# Altium schematic symbol library kmilo17pet-LT_OpAmp_LT1000.SchLib: 2280 symbols (part 1 of 79)
Pins are listed as number, name and electrical type; pins without a type are passive.

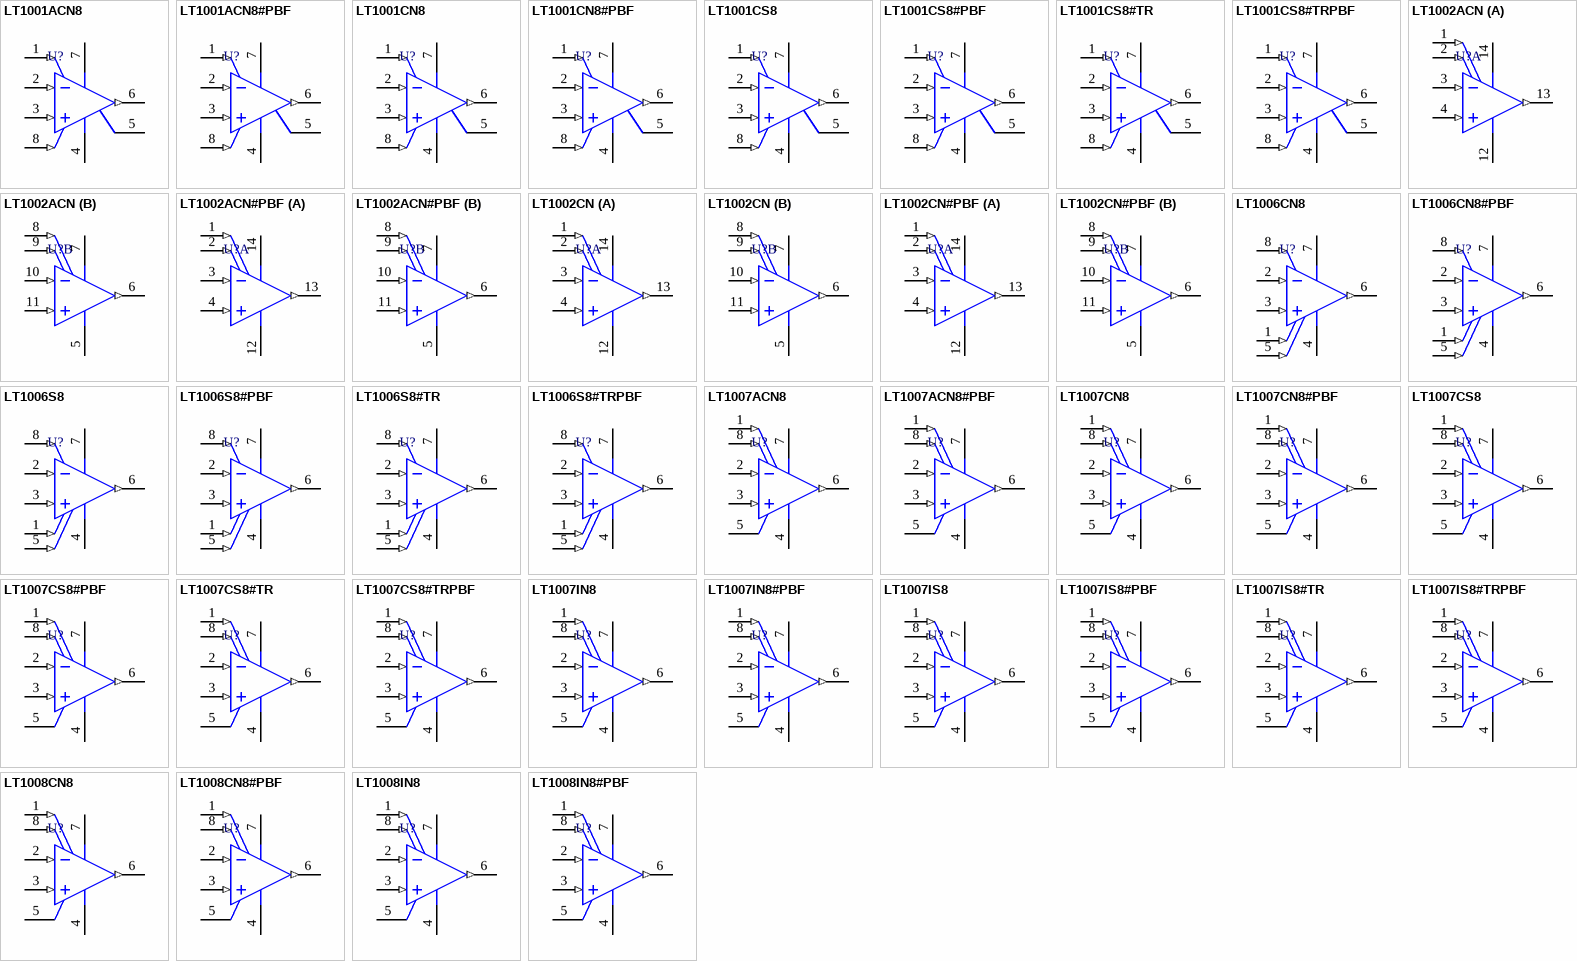
[diagram p0: symbols LT1001ACN8 to LT1008IN8#PBF]

## LT1001ACN8
designator U?
Single Channel, General Purpose, High Precision Operational Amplifier, 0.8 MHz Typical GBW, 0.25 V/us Typical SR, 6 to 44 V, 8-Pin DIP (N8-8), Commerical; Linear Technology Part Number: LT1001; Manufacturer: Linear Technology; PartNumber: LT1001ACN8; Channels (#): 1; GBW (MHz) Typical: 0.8; Is (mA) Typical: 1.5; SR (V/us) Typical: 0.25; Vos (mV) Typical: 0.01; Vs Max (V): 44; Vs Min (V): 6; DatasheetVersion: Rev. B; PackageVersion: Rev I; PackageReference: LT-N8-8; PackageDescription: 8-Lead PDIP, Body 10.16 x 6.48 mm, Pitch 2.54 mm; Supplier 1: Digi-Key; Supplier Part Number 1: LT1001ACN8-ND; Supplier 2: Newark; Supplier Part Number 2: 57M0677; Type: VFB; Mounting Technology: Through Hole; ComponentLink1Description: Manufacturer URL; ComponentLink1URL: http://www.linear.com/; ComponentLink2Description: Datasheet; ComponentLink2URL: http://cds.linear.com/docs/en/datasheet/1001fb.pdf; ComponentLink3Description: Package Specification; ComponentLink3URL: http://cds.linear.com/docs/en/packaging/05081510_I_N8.pdf
footprint LT-N8-8 (DIP, 8-Leads, Body 10.16x6.48mm, Pitch 2.54mm)
pins: 1 VOS TRIM (in), 2 -IN (in), 3 +IN (in), 4 V- (power), 5 NC, 6 OUT (out), 7 V+ (power), 8 VOS TRIM (in)

## LT1001ACN8#PBF
designator U?
Single Channel, General Purpose, High Precision Operational Amplifier, 0.8 MHz Typical GBW, 0.25 V/us Typical SR, 6 to 44 V, 8-Pin DIP (N8-8), Commerical, Pb-Free; Linear Technology Part Number: LT1001; Manufacturer: Linear Technology; PartNumber: LT1001ACN8#PBF; Channels (#): 1; GBW (MHz) Typical: 0.8; Is (mA) Typical: 1.5; SR (V/us) Typical: 0.25; Vos (mV) Typical: 0.01; Vs Max (V): 44; Vs Min (V): 6; DatasheetVersion: Rev. B; PackageVersion: Rev I; PackageReference: LT-N8-8; PackageDescription: 8-Lead PDIP, Body 10.16 x 6.48 mm, Pitch 2.54 mm; Supplier 1: Digi-Key; Supplier Part Number 1: LT1001ACN8#PBF-ND; Supplier 2: Farnell; Supplier Part Number 2: 2211375; Supplier 3: Newark; Supplier Part Number 3: 57M0678; RoHS: Pb-Free; Type: VFB; Mounting Technology: Through Hole; ComponentLink1Description: Manufacturer URL; ComponentLink1URL: http://www.linear.com/; ComponentLink2Description: Datasheet; ComponentLink2URL: http://cds.linear.com/docs/en/datasheet/1001fb.pdf; ComponentLink3Description: Package Specification; ComponentLink3URL: http://cds.linear.com/docs/en/packaging/05081510_I_N8.pdf
footprint LT-N8-8 (DIP, 8-Leads, Body 10.16x6.48mm, Pitch 2.54mm)
pins: 1 VOS TRIM (in), 2 -IN (in), 3 +IN (in), 4 V- (power), 5 NC, 6 OUT (out), 7 V+ (power), 8 VOS TRIM (in)

## LT1001CN8
designator U?
Single Channel, General Purpose, High Precision Operational Amplifier, 0.8 MHz Typical GBW, 0.25 V/us Typical SR, 6 to 44 V, 8-Pin DIP (N8-8), Commerical; Linear Technology Part Number: LT1001; Manufacturer: Linear Technology; PartNumber: LT1001CN8; Channels (#): 1; GBW (MHz) Typical: 0.8; Is (mA) Typical: 1.5; SR (V/us) Typical: 0.25; Vos (mV) Typical: 0.01; Vs Max (V): 44; Vs Min (V): 6; DatasheetVersion: Rev. B; PackageVersion: Rev I; PackageReference: LT-N8-8; PackageDescription: 8-Lead PDIP, Body 10.16 x 6.48 mm, Pitch 2.54 mm; Supplier 1: Digi-Key; Supplier Part Number 1: LT1001CN8-ND; Supplier 2: Newark; Supplier Part Number 2: 57M0679; Type: VFB; Mounting Technology: Surface Mount; ComponentLink1Description: Manufacturer URL; ComponentLink1URL: http://www.linear.com/; ComponentLink2Description: Datasheet; ComponentLink2URL: http://cds.linear.com/docs/en/datasheet/1001fb.pdf; ComponentLink3Description: Package Specification; ComponentLink3URL: http://cds.linear.com/docs/en/packaging/05081510_I_N8.pdf
footprint LT-N8-8 (DIP, 8-Leads, Body 10.16x6.48mm, Pitch 2.54mm)
pins: 1 VOS TRIM (in), 2 -IN (in), 3 +IN (in), 4 V- (power), 5 NC, 6 OUT (out), 7 V+ (power), 8 VOS TRIM (in)

## LT1001CN8#PBF
designator U?
Single Channel, General Purpose, High Precision Operational Amplifier, 0.8 MHz Typical GBW, 0.25 V/us Typical SR, 6 to 44 V, 8-Pin DIP (N8-8), Commerical, Pb-Free; Linear Technology Part Number: LT1001; Manufacturer: Linear Technology; PartNumber: LT1001CN8#PBF; Channels (#): 1; GBW (MHz) Typical: 0.8; Is (mA) Typical: 1.5; SR (V/us) Typical: 0.25; Vos (mV) Typical: 0.01; Vs Max (V): 44; Vs Min (V): 6; DatasheetVersion: Rev. B; PackageVersion: Rev I; PackageReference: LT-N8-8; PackageDescription: 8-Lead PDIP, Body 10.16 x 6.48 mm, Pitch 2.54 mm; Supplier 1: Digi-Key; Supplier Part Number 1: LT1001CN8#PBF-ND; Supplier 2: Farnell; Supplier Part Number 2: 2211376; Supplier 3: Newark; Supplier Part Number 3: 57M0680; RoHS: Pb-Free; Type: VFB; Mounting Technology: Surface Mount; ComponentLink1Description: Manufacturer URL; ComponentLink1URL: http://www.linear.com/; ComponentLink2Description: Datasheet; ComponentLink2URL: http://cds.linear.com/docs/en/datasheet/1001fb.pdf; ComponentLink3Description: Package Specification; ComponentLink3URL: http://cds.linear.com/docs/en/packaging/05081510_I_N8.pdf
footprint LT-N8-8 (DIP, 8-Leads, Body 10.16x6.48mm, Pitch 2.54mm)
pins: 1 VOS TRIM (in), 2 -IN (in), 3 +IN (in), 4 V- (power), 5 NC, 6 OUT (out), 7 V+ (power), 8 VOS TRIM (in)

## LT1001CS8
designator U?
Single Channel, General Purpose, High Precision Operational Amplifier, 0.8 MHz Typical GBW, 0.25 V/us Typical SR, 6 to 44 V, 8-Pin SOIC (S8-8), Commerical; Linear Technology Part Number: LT1001; Manufacturer: Linear Technology; PartNumber: LT1001CS8; Channels (#): 1; GBW (MHz) Typical: 0.8; Is (mA) Typical: 1.5; SR (V/us) Typical: 0.25; Vos (mV) Typical: 0.01; Vs Max (V): 44; Vs Min (V): 6; DatasheetVersion: Rev. B; PackageVersion: Rev G; PackageReference: LT-S8-8; PackageDescription: 8-Pin Plastic Small Outline, Body 4.9 x 3.9 mm, Pitch 1.27 mm; Supplier 1: Digi-Key; Supplier Part Number 1: LT1001CS8-ND; Type: VFB; Mounting Technology: Surface Mount; ComponentLink1Description: Manufacturer URL; ComponentLink1URL: http://www.linear.com/; ComponentLink2Description: Datasheet; ComponentLink2URL: http://cds.linear.com/docs/en/datasheet/1001fb.pdf; ComponentLink3Description: Package Specification; ComponentLink3URL: http://cds.linear.com/docs/en/packaging/05081610_G_SO8.pdf
footprint LT-S8-8_N (SOIC, 8-Leads, Body 4.9x3.9mm, Pitch 1.27mm, IPC Medium Density)
footprint LT-S8-8_L (SOIC, 8-Leads, Body 4.9x3.9mm, Pitch 1.27mm, IPC High Density)
footprint LT-S8-8_M (SOIC, 8-Leads, Body 4.9x3.9mm, Pitch 1.27mm, IPC Low Density)
pins: 1 VOS TRIM (in), 2 -IN (in), 3 +IN (in), 4 V- (power), 5 NC, 6 OUT (out), 7 V+ (power), 8 VOS TRIM (in)

## LT1001CS8#PBF
designator U?
Single Channel, General Purpose, High Precision Operational Amplifier, 0.8 MHz Typical GBW, 0.25 V/us Typical SR, 6 to 44 V, 8-Pin SOIC (S8-8), Commerical, Pb-Free; Linear Technology Part Number: LT1001; Manufacturer: Linear Technology; PartNumber: LT1001CS8#PBF; Channels (#): 1; GBW (MHz) Typical: 0.8; Is (mA) Typical: 1.5; SR (V/us) Typical: 0.25; Vos (mV) Typical: 0.01; Vs Max (V): 44; Vs Min (V): 6; DatasheetVersion: Rev. B; PackageVersion: Rev G; PackageReference: LT-S8-8; PackageDescription: 8-Pin Plastic Small Outline, Body 4.9 x 3.9 mm, Pitch 1.27 mm; Supplier 1: Digi-Key; Supplier Part Number 1: LT1001CS8#PBF-ND; Supplier 2: Farnell; Supplier Part Number 2: 1330559; Supplier 3: Newark; Supplier Part Number 3: 57M0682; RoHS: Pb-Free; Type: VFB; Mounting Technology: Surface Mount; ComponentLink1Description: Manufacturer URL; ComponentLink1URL: http://www.linear.com/; ComponentLink2Description: Datasheet; ComponentLink2URL: http://cds.linear.com/docs/en/datasheet/1001fb.pdf; ComponentLink3Description: Package Specification; ComponentLink3URL: http://cds.linear.com/docs/en/packaging/05081610_G_SO8.pdf
footprint LT-S8-8_N (SOIC, 8-Leads, Body 4.9x3.9mm, Pitch 1.27mm, IPC Medium Density)
footprint LT-S8-8_L (SOIC, 8-Leads, Body 4.9x3.9mm, Pitch 1.27mm, IPC High Density)
footprint LT-S8-8_M (SOIC, 8-Leads, Body 4.9x3.9mm, Pitch 1.27mm, IPC Low Density)
pins: 1 VOS TRIM (in), 2 -IN (in), 3 +IN (in), 4 V- (power), 5 NC, 6 OUT (out), 7 V+ (power), 8 VOS TRIM (in)

## LT1001CS8#TR
designator U?
Single Channel, General Purpose, High Precision Operational Amplifier, 0.8 MHz Typical GBW, 0.25 V/us Typical SR, 6 to 44 V, 8-Pin SOIC (S8-8), Commerical, Reel; Linear Technology Part Number: LT1001; Manufacturer: Linear Technology; PartNumber: LT1001CS8#TR; Channels (#): 1; GBW (MHz) Typical: 0.8; Is (mA) Typical: 1.5; SR (V/us) Typical: 0.25; Vos (mV) Typical: 0.01; Vs Max (V): 44; Vs Min (V): 6; DatasheetVersion: Rev. B; PackageVersion: Rev G; PackageReference: LT-S8-8; PackageDescription: 8-Pin Plastic Small Outline, Body 4.9 x 3.9 mm, Pitch 1.27 mm; Supplier 1: Digi-Key; Supplier Part Number 1: LT1001CS8#TR-ND; Packing: Reel; Type: VFB; Mounting Technology: Surface Mount; ComponentLink1Description: Manufacturer URL; ComponentLink1URL: http://www.linear.com/; ComponentLink2Description: Datasheet; ComponentLink2URL: http://cds.linear.com/docs/en/datasheet/1001fb.pdf; ComponentLink3Description: Package Specification; ComponentLink3URL: http://cds.linear.com/docs/en/packaging/05081610_G_SO8.pdf
footprint LT-S8-8_N (SOIC, 8-Leads, Body 4.9x3.9mm, Pitch 1.27mm, IPC Medium Density)
footprint LT-S8-8_L (SOIC, 8-Leads, Body 4.9x3.9mm, Pitch 1.27mm, IPC High Density)
footprint LT-S8-8_M (SOIC, 8-Leads, Body 4.9x3.9mm, Pitch 1.27mm, IPC Low Density)
pins: 1 VOS TRIM (in), 2 -IN (in), 3 +IN (in), 4 V- (power), 5 NC, 6 OUT (out), 7 V+ (power), 8 VOS TRIM (in)

## LT1001CS8#TRPBF
designator U?
Single Channel, General Purpose, High Precision Operational Amplifier, 0.8 MHz Typical GBW, 0.25 V/us Typical SR, 6 to 44 V, 8-Pin SOIC (S8-8), Commerical, Pb-Free, Reel; Linear Technology Part Number: LT1001; Manufacturer: Linear Technology; PartNumber: LT1001CS8#TRPBF; Channels (#): 1; GBW (MHz) Typical: 0.8; Is (mA) Typical: 1.5; SR (V/us) Typical: 0.25; Vos (mV) Typical: 0.01; Vs Max (V): 44; Vs Min (V): 6; DatasheetVersion: Rev. B; PackageVersion: Rev G; PackageReference: LT-S8-8; PackageDescription: 8-Pin Plastic Small Outline, Body 4.9 x 3.9 mm, Pitch 1.27 mm; Supplier 1: Digi-Key; Supplier Part Number 1: LT1001CS8#TRPBF-ND; Packing: Reel; RoHS: Pb-Free; Type: VFB; Mounting Technology: Surface Mount; ComponentLink1Description: Manufacturer URL; ComponentLink1URL: http://www.linear.com/; ComponentLink2Description: Datasheet; ComponentLink2URL: http://cds.linear.com/docs/en/datasheet/1001fb.pdf; ComponentLink3Description: Package Specification; ComponentLink3URL: http://cds.linear.com/docs/en/packaging/05081610_G_SO8.pdf
footprint LT-S8-8_N (SOIC, 8-Leads, Body 4.9x3.9mm, Pitch 1.27mm, IPC Medium Density)
footprint LT-S8-8_L (SOIC, 8-Leads, Body 4.9x3.9mm, Pitch 1.27mm, IPC High Density)
footprint LT-S8-8_M (SOIC, 8-Leads, Body 4.9x3.9mm, Pitch 1.27mm, IPC Low Density)
pins: 1 VOS TRIM (in), 2 -IN (in), 3 +IN (in), 4 V- (power), 5 NC, 6 OUT (out), 7 V+ (power), 8 VOS TRIM (in)

## LT1002ACN
designator U?
Dual Channel, Operational Amplifier, High CMRR and PSRR , 0.8 MHz Typical GBW, 0.25 V/us Typical SR, 6 to 44 V, 14-Pin DIP (N-14), Commerical; Linear Technology Part Number: LT1002; Manufacturer: Linear Technology; PartNumber: LT1002ACN; Channels (#): 2; GBW (MHz) Typical: 0.8; Is (mA) Typical: 1.53; SR (V/us) Typical: 0.25; Vos (mV) Typical: 0.02; Vs Max (V): 44; Vs Min (V): 6; DatasheetVersion: Rev. B; PackageVersion: Rev I; PackageReference: LT-N-14; PackageDescription: 14-Lead PDIP, Body 19.558 x 6.477 mm, Pitch 2.54 mm; Supplier 1: Digi-Key; Supplier Part Number 1: LT1002ACN-ND; Supplier 2: Newark; Supplier Part Number 2: 57M0685; Type: VFB; Mounting Technology: Through Hole; ComponentLink1Description: Manufacturer URL; ComponentLink1URL: http://www.linear.com/; ComponentLink2Description: Datasheet; ComponentLink2URL: http://cds.linear.com/docs/en/datasheet/1002fb.pdf; ComponentLink3Description: Package Specification; ComponentLink3URL: http://cds.linear.com/docs/en/packaging/05081510_I_N14.pdf
footprint LT-N-14 (DIP, 14-Leads, Body 19.558x6.477mm, Pitch 2.54mm)
part A pins: 1 NULL (A) (in), 2 NULL (A) (in), 3 -IN (A) (in), 4 +IN (A) (in), 12 V- (A) (power), 13 OUT (A) (out), 14 V+ (A) (power)
part B pins: 5 V- (B) (power), 6 OUT (B) (out), 7 V+ (B) (power), 8 NULL (B) (in), 9 NULL (B) (in), 10 -IN (B) (in), 11 +IN (B) (in)

## LT1002ACN#PBF
designator U?
Dual Channel, Operational Amplifier, High CMRR and PSRR , 0.8 MHz Typical GBW, 0.25 V/us Typical SR, 6 to 44 V, 14-Pin DIP (N-14), Commerical, Pb-Free; Linear Technology Part Number: LT1002; Manufacturer: Linear Technology; PartNumber: LT1002ACN#PBF; Channels (#): 2; GBW (MHz) Typical: 0.8; Is (mA) Typical: 1.53; SR (V/us) Typical: 0.25; Vos (mV) Typical: 0.02; Vs Max (V): 44; Vs Min (V): 6; DatasheetVersion: Rev. B; PackageVersion: Rev I; PackageReference: LT-N-14; PackageDescription: 14-Lead PDIP, Body 19.558 x 6.477 mm, Pitch 2.54 mm; Supplier 1: Digi-Key; Supplier Part Number 1: LT1002ACN#PBF-ND; Supplier 2: Newark; Supplier Part Number 2: 57M0686; RoHS: Pb-Free; Type: VFB; Mounting Technology: Through Hole; ComponentLink1Description: Manufacturer URL; ComponentLink1URL: http://www.linear.com/; ComponentLink2Description: Datasheet; ComponentLink2URL: http://cds.linear.com/docs/en/datasheet/1002fb.pdf; ComponentLink3Description: Package Specification; ComponentLink3URL: http://cds.linear.com/docs/en/packaging/05081510_I_N14.pdf
footprint LT-N-14 (DIP, 14-Leads, Body 19.558x6.477mm, Pitch 2.54mm)
part A pins: 1 NULL (A) (in), 2 NULL (A) (in), 3 -IN (A) (in), 4 +IN (A) (in), 12 V- (A) (power), 13 OUT (A) (out), 14 V+ (A) (power)
part B pins: 5 V- (B) (power), 6 OUT (B) (out), 7 V+ (B) (power), 8 NULL (B) (in), 9 NULL (B) (in), 10 -IN (B) (in), 11 +IN (B) (in)

## LT1002CN
designator U?
Dual Channel, Operational Amplifier, High CMRR and PSRR , 0.8 MHz Typical GBW, 0.25 V/us Typical SR, 6 to 44 V, 14-Pin DIP (N-14), Commerical; Linear Technology Part Number: LT1002; Manufacturer: Linear Technology; PartNumber: LT1002CN; Channels (#): 2; GBW (MHz) Typical: 0.8; Is (mA) Typical: 1.53; SR (V/us) Typical: 0.25; Vos (mV) Typical: 0.02; Vs Max (V): 44; Vs Min (V): 6; DatasheetVersion: Rev. B; PackageVersion: Rev I; PackageReference: LT-N-14; PackageDescription: 14-Lead PDIP, Body 19.558 x 6.477 mm, Pitch 2.54 mm; Supplier 1: Digi-Key; Supplier Part Number 1: LT1002CN-ND; Supplier 2: Newark; Supplier Part Number 2: 57M0687; Type: VFB; Mounting Technology: Through Hole; ComponentLink1Description: Manufacturer URL; ComponentLink1URL: http://www.linear.com/; ComponentLink2Description: Datasheet; ComponentLink2URL: http://cds.linear.com/docs/en/datasheet/1002fb.pdf; ComponentLink3Description: Package Specification; ComponentLink3URL: http://cds.linear.com/docs/en/packaging/05081510_I_N14.pdf
footprint LT-N-14 (DIP, 14-Leads, Body 19.558x6.477mm, Pitch 2.54mm)
part A pins: 1 NULL (A) (in), 2 NULL (A) (in), 3 -IN (A) (in), 4 +IN (A) (in), 12 V- (A) (power), 13 OUT (A) (out), 14 V+ (A) (power)
part B pins: 5 V- (B) (power), 6 OUT (B) (out), 7 V+ (B) (power), 8 NULL (B) (in), 9 NULL (B) (in), 10 -IN (B) (in), 11 +IN (B) (in)

## LT1002CN#PBF
designator U?
Dual Channel, Operational Amplifier, High CMRR and PSRR , 0.8 MHz Typical GBW, 0.25 V/us Typical SR, 6 to 44 V, 14-Pin DIP (N-14), Commerical, Pb-Free; Linear Technology Part Number: LT1002; Manufacturer: Linear Technology; PartNumber: LT1002CN#PBF; Channels (#): 2; GBW (MHz) Typical: 0.8; Is (mA) Typical: 1.53; SR (V/us) Typical: 0.25; Vos (mV) Typical: 0.02; Vs Max (V): 44; Vs Min (V): 6; DatasheetVersion: Rev. B; PackageVersion: Rev I; PackageReference: LT-N-14; PackageDescription: 14-Lead PDIP, Body 19.558 x 6.477 mm, Pitch 2.54 mm; Supplier 1: Digi-Key; Supplier Part Number 1: LT1002CN#PBF-ND; Supplier 2: Farnell; Supplier Part Number 2: 1330560; Supplier 3: Newark; Supplier Part Number 3: 57M0688; RoHS: Pb-Free; Type: VFB; Mounting Technology: Through Hole; ComponentLink1Description: Manufacturer URL; ComponentLink1URL: http://www.linear.com/; ComponentLink2Description: Datasheet; ComponentLink2URL: http://cds.linear.com/docs/en/datasheet/1002fb.pdf; ComponentLink3Description: Package Specification; ComponentLink3URL: http://cds.linear.com/docs/en/packaging/05081510_I_N14.pdf
footprint LT-N-14 (DIP, 14-Leads, Body 19.558x6.477mm, Pitch 2.54mm)
part A pins: 1 NULL (A) (in), 2 NULL (A) (in), 3 -IN (A) (in), 4 +IN (A) (in), 12 V- (A) (power), 13 OUT (A) (out), 14 V+ (A) (power)
part B pins: 5 V- (B) (power), 6 OUT (B) (out), 7 V+ (B) (power), 8 NULL (B) (in), 9 NULL (B) (in), 10 -IN (B) (in), 11 +IN (B) (in)

## LT1006CN8
designator U?
Single Channel, Precision Single Supply Operational Amplifier, 0.6 MHz Typical GBW, 0.4 V/us Typical SR, 4 to 44 V, 8-Pin DIP (N8-8), Commerical; Linear Technology Part Number: LT1006; Manufacturer: Linear Technology; PartNumber: LT1006CN8; Channels (#): 1; GBW (MHz) Typical: 0.6; Is (mA) Typical: 0.34; SR (V/us) Typical: 0.4; Vos (mV) Typical: 0.02; Vs Max (V): 44; Vs Min (V): 4; DatasheetVersion: Rev. A; PackageVersion: Rev I; PackageReference: LT-N8-8; PackageDescription: 8-Lead PDIP, Body 10.16 x 6.48 mm, Pitch 2.54 mm; Supplier 1: Digi-Key; Supplier Part Number 1: LT1006CN8-ND; Type: VFB; Mounting Technology: Through Hole; ComponentLink1Description: Manufacturer URL; ComponentLink1URL: http://www.linear.com/; ComponentLink2Description: Datasheet; ComponentLink2URL: http://cds.linear.com/docs/en/datasheet/1006fa.pdf; ComponentLink3Description: Package Specification; ComponentLink3URL: http://cds.linear.com/docs/en/packaging/05081510_I_N8.pdf
footprint LT-N8-8 (DIP, 8-Leads, Body 10.16x6.48mm, Pitch 2.54mm)
pins: 1 VOS TRIM (in), 2 -IN (in), 3 +IN (in), 4 V- (power), 5 VOS TRIM (in), 6 OUT (out), 7 V+ (power), 8 ISY SET (in)

## LT1006CN8#PBF
designator U?
Single Channel, Precision Single Supply Operational Amplifier, 0.6 MHz Typical GBW, 0.4 V/us Typical SR, 4 to 44 V, 8-Pin DIP (N8-8), Commerical, Pb-Free; Linear Technology Part Number: LT1006; Manufacturer: Linear Technology; PartNumber: LT1006CN8#PBF; Channels (#): 1; GBW (MHz) Typical: 0.6; Is (mA) Typical: 0.34; SR (V/us) Typical: 0.4; Vos (mV) Typical: 0.02; Vs Max (V): 44; Vs Min (V): 4; DatasheetVersion: Rev. A; PackageVersion: Rev I; PackageReference: LT-N8-8; PackageDescription: 8-Lead PDIP, Body 10.16 x 6.48 mm, Pitch 2.54 mm; Supplier 1: Digi-Key; Supplier Part Number 1: LT1006CN8#PBF-ND; Supplier 2: Farnell; Supplier Part Number 2: 9559221; Supplier 3: Newark; Supplier Part Number 3: 57M0722; RoHS: Pb-Free; Type: VFB; Mounting Technology: Surface Mount; ComponentLink1Description: Manufacturer URL; ComponentLink1URL: http://www.linear.com/; ComponentLink2Description: Datasheet; ComponentLink2URL: http://cds.linear.com/docs/en/datasheet/1006fa.pdf; ComponentLink3Description: Package Specification; ComponentLink3URL: http://cds.linear.com/docs/en/packaging/05081510_I_N8.pdf
footprint LT-N8-8 (DIP, 8-Leads, Body 10.16x6.48mm, Pitch 2.54mm)
pins: 1 VOS TRIM (in), 2 -IN (in), 3 +IN (in), 4 V- (power), 5 VOS TRIM (in), 6 OUT (out), 7 V+ (power), 8 ISY SET (in)

## LT1006S8
designator U?
Single Channel, Precision Single Supply Operational Amplifier, 0.6 MHz Typical GBW, 0.4 V/us Typical SR, 4 to 44 V, 8-Pin SOIC (S8-8), Commerical; Linear Technology Part Number: LT1006; Manufacturer: Linear Technology; PartNumber: LT1006S8; Channels (#): 1; GBW (MHz) Typical: 0.6; Is (mA) Typical: 0.34; SR (V/us) Typical: 0.4; Vos (mV) Typical: 0.02; Vs Max (V): 44; Vs Min (V): 4; DatasheetVersion: Rev. A; PackageVersion: Rev G; PackageReference: LT-S8-8; PackageDescription: 8-Pin Plastic Small Outline, Body 4.9 x 3.9 mm, Pitch 1.27 mm; Supplier 1: Digi-Key; Supplier Part Number 1: LT1006S8-ND; Type: VFB; Mounting Technology: Surface Mount; ComponentLink1Description: Manufacturer URL; ComponentLink1URL: http://www.linear.com/; ComponentLink2Description: Datasheet; ComponentLink2URL: http://cds.linear.com/docs/en/datasheet/1006fa.pdf; ComponentLink3Description: Package Specification; ComponentLink3URL: http://cds.linear.com/docs/en/packaging/05081610_G_SO8.pdf
footprint LT-S8-8_N (SOIC, 8-Leads, Body 4.9x3.9mm, Pitch 1.27mm, IPC Medium Density)
footprint LT-S8-8_L (SOIC, 8-Leads, Body 4.9x3.9mm, Pitch 1.27mm, IPC High Density)
footprint LT-S8-8_M (SOIC, 8-Leads, Body 4.9x3.9mm, Pitch 1.27mm, IPC Low Density)
pins: 1 VOS TRIM (in), 2 -IN (in), 3 +IN (in), 4 V- (power), 5 VOS TRIM (in), 6 OUT (out), 7 V+ (power), 8 ISY SET (in)

## LT1006S8#PBF
designator U?
Single Channel, Precision Single Supply Operational Amplifier, 0.6 MHz Typical GBW, 0.4 V/us Typical SR, 4 to 44 V, 8-Pin SOIC (S8-8), Commerical, Pb-Free; Linear Technology Part Number: LT1006; Manufacturer: Linear Technology; PartNumber: LT1006S8#PBF; Channels (#): 1; GBW (MHz) Typical: 0.6; Is (mA) Typical: 0.34; SR (V/us) Typical: 0.4; Vos (mV) Typical: 0.02; Vs Max (V): 44; Vs Min (V): 4; DatasheetVersion: Rev. A; PackageVersion: Rev G; PackageReference: LT-S8-8; PackageDescription: 8-Pin Plastic Small Outline, Body 4.9 x 3.9 mm, Pitch 1.27 mm; Supplier 1: Digi-Key; Supplier Part Number 1: LT1006S8#PBF-ND; Supplier 2: Farnell; Supplier Part Number 2: 9559230; Supplier 3: Newark; Supplier Part Number 3: 57M0724; RoHS: Pb-Free; Type: VFB; Mounting Technology: Surface Mount; ComponentLink1Description: Manufacturer URL; ComponentLink1URL: http://www.linear.com/; ComponentLink2Description: Datasheet; ComponentLink2URL: http://cds.linear.com/docs/en/datasheet/1006fa.pdf; ComponentLink3Description: Package Specification; ComponentLink3URL: http://cds.linear.com/docs/en/packaging/05081610_G_SO8.pdf
footprint LT-S8-8_N (SOIC, 8-Leads, Body 4.9x3.9mm, Pitch 1.27mm, IPC Medium Density)
footprint LT-S8-8_L (SOIC, 8-Leads, Body 4.9x3.9mm, Pitch 1.27mm, IPC High Density)
footprint LT-S8-8_M (SOIC, 8-Leads, Body 4.9x3.9mm, Pitch 1.27mm, IPC Low Density)
pins: 1 VOS TRIM (in), 2 -IN (in), 3 +IN (in), 4 V- (power), 5 VOS TRIM (in), 6 OUT (out), 7 V+ (power), 8 ISY SET (in)

## LT1006S8#TR
designator U?
Single Channel, Precision Single Supply Operational Amplifier, 0.6 MHz Typical GBW, 0.4 V/us Typical SR, 4 to 44 V, 8-Pin SOIC (S8-8), Commerical, Reel; Linear Technology Part Number: LT1006; Manufacturer: Linear Technology; PartNumber: LT1006S8#TR; Channels (#): 1; GBW (MHz) Typical: 0.6; Is (mA) Typical: 0.34; SR (V/us) Typical: 0.4; Vos (mV) Typical: 0.02; Vs Max (V): 44; Vs Min (V): 4; DatasheetVersion: Rev. A; PackageVersion: Rev G; PackageReference: LT-S8-8; PackageDescription: 8-Pin Plastic Small Outline, Body 4.9 x 3.9 mm, Pitch 1.27 mm; Supplier 1: Digi-Key; Supplier Part Number 1: LT1006S8#TR-ND; Packing: Reel; Type: VFB; Mounting Technology: Surface Mount; ComponentLink1Description: Manufacturer URL; ComponentLink1URL: http://www.linear.com/; ComponentLink2Description: Datasheet; ComponentLink2URL: http://cds.linear.com/docs/en/datasheet/1006fa.pdf; ComponentLink3Description: Package Specification; ComponentLink3URL: http://cds.linear.com/docs/en/packaging/05081610_G_SO8.pdf
footprint LT-S8-8_N (SOIC, 8-Leads, Body 4.9x3.9mm, Pitch 1.27mm, IPC Medium Density)
footprint LT-S8-8_L (SOIC, 8-Leads, Body 4.9x3.9mm, Pitch 1.27mm, IPC High Density)
footprint LT-S8-8_M (SOIC, 8-Leads, Body 4.9x3.9mm, Pitch 1.27mm, IPC Low Density)
pins: 1 VOS TRIM (in), 2 -IN (in), 3 +IN (in), 4 V- (power), 5 VOS TRIM (in), 6 OUT (out), 7 V+ (power), 8 ISY SET (in)

## LT1006S8#TRPBF
designator U?
Single Channel, Precision Single Supply Operational Amplifier, 0.6 MHz Typical GBW, 0.4 V/us Typical SR, 4 to 44 V, 8-Pin SOIC (S8-8), Commerical, Pb-Free, Reel; Linear Technology Part Number: LT1006; Manufacturer: Linear Technology; PartNumber: LT1006S8#TRPBF; Channels (#): 1; GBW (MHz) Typical: 0.6; Is (mA) Typical: 0.34; SR (V/us) Typical: 0.4; Vos (mV) Typical: 0.02; Vs Max (V): 44; Vs Min (V): 4; DatasheetVersion: Rev. A; PackageVersion: Rev G; PackageReference: LT-S8-8; PackageDescription: 8-Pin Plastic Small Outline, Body 4.9 x 3.9 mm, Pitch 1.27 mm; Supplier 1: Digi-Key; Supplier Part Number 1: LT1006S8#TRPBFTR-ND; Supplier 2: Digi-Key; Supplier Part Number 2: LT1006S8#TRPBFCT-ND; Supplier 3: Digi-Key; Supplier Part Number 3: LT1006S8#TRPBFDKR-ND; Supplier 4: Newark; Supplier Part Number 4: 57M0726; Packing: Reel; RoHS: Pb-Free; Type: VFB; Mounting Technology: Surface Mount; ComponentLink1Description: Manufacturer URL; ComponentLink1URL: http://www.linear.com/; ComponentLink2Description: Datasheet; ComponentLink2URL: http://cds.linear.com/docs/en/datasheet/1006fa.pdf; ComponentLink3Description: Package Specification; ComponentLink3URL: http://cds.linear.com/docs/en/packaging/05081610_G_SO8.pdf
footprint LT-S8-8_N (SOIC, 8-Leads, Body 4.9x3.9mm, Pitch 1.27mm, IPC Medium Density)
footprint LT-S8-8_L (SOIC, 8-Leads, Body 4.9x3.9mm, Pitch 1.27mm, IPC High Density)
footprint LT-S8-8_M (SOIC, 8-Leads, Body 4.9x3.9mm, Pitch 1.27mm, IPC Low Density)
pins: 1 VOS TRIM (in), 2 -IN (in), 3 +IN (in), 4 V- (power), 5 VOS TRIM (in), 6 OUT (out), 7 V+ (power), 8 ISY SET (in)

## LT1007ACN8
designator U?
Single Channel, Low Noise, High Speed Precision Operational Amplifier, 8 MHz Typical GBW, 2.5 V/us Typical SR, 4 to 44 V, 8-Pin DIP (N8-8), Commerical; Linear Technology Part Number: LT1007; Manufacturer: Linear Technology; PartNumber: LT1007ACN8; Channels (#): 1; GBW (MHz) Typical: 8; Is (mA) Typical: 2.6; SR (V/us) Typical: 2.5; Vos (mV) Typical: 0.01; Vs Max (V): 44; Vs Min (V): 4; DatasheetVersion: Rev. A; PackageVersion: Rev I; PackageReference: LT-N8-8; PackageDescription: 8-Lead PDIP, Body 10.16 x 6.48 mm, Pitch 2.54 mm; Supplier 1: Digi-Key; Supplier Part Number 1: LT1007ACN8-ND; Type: VFB; Mounting Technology: Through Hole; ComponentLink1Description: Manufacturer URL; ComponentLink1URL: http://www.linear.com/; ComponentLink2Description: Datasheet; ComponentLink2URL: http://cds.linear.com/docs/en/datasheet/1007dicedwffa.pdf; ComponentLink3Description: Package Specification; ComponentLink3URL: http://cds.linear.com/docs/en/packaging/05081510_I_N8.pdf
footprint LT-N8-8 (DIP, 8-Leads, Body 10.16x6.48mm, Pitch 2.54mm)
pins: 1 VOS TRIM (in), 2 -IN (in), 3 +IN (in), 4 V- (power), 5 NC, 6 OUT (out), 7 V+ (power), 8 VOS TRIM (in)

## LT1007ACN8#PBF
designator U?
Single Channel, Low Noise, High Speed Precision Operational Amplifier, 8 MHz Typical GBW, 2.5 V/us Typical SR, 4 to 44 V, 8-Pin DIP (N8-8), Commerical, Pb-Free; Linear Technology Part Number: LT1007; Manufacturer: Linear Technology; PartNumber: LT1007ACN8#PBF; Channels (#): 1; GBW (MHz) Typical: 8; Is (mA) Typical: 2.6; SR (V/us) Typical: 2.5; Vos (mV) Typical: 0.01; Vs Max (V): 44; Vs Min (V): 4; DatasheetVersion: Rev. A; PackageVersion: Rev I; PackageReference: LT-N8-8; PackageDescription: 8-Lead PDIP, Body 10.16 x 6.48 mm, Pitch 2.54 mm; Supplier 1: Digi-Key; Supplier Part Number 1: LT1007ACN8#PBF-ND; Supplier 2: Farnell; Supplier Part Number 2: 2113543; Supplier 3: Newark; Supplier Part Number 3: 57M0728; RoHS: Pb-Free; Type: VFB; Mounting Technology: Through Hole; ComponentLink1Description: Manufacturer URL; ComponentLink1URL: http://www.linear.com/; ComponentLink2Description: Datasheet; ComponentLink2URL: http://cds.linear.com/docs/en/datasheet/1007dicedwffa.pdf; ComponentLink3Description: Package Specification; ComponentLink3URL: http://cds.linear.com/docs/en/packaging/05081510_I_N8.pdf
footprint LT-N8-8 (DIP, 8-Leads, Body 10.16x6.48mm, Pitch 2.54mm)
pins: 1 VOS TRIM (in), 2 -IN (in), 3 +IN (in), 4 V- (power), 5 NC, 6 OUT (out), 7 V+ (power), 8 VOS TRIM (in)

## LT1007CN8
designator U?
Single Channel, Low Noise, High Speed Precision Operational Amplifier, 8 MHz Typical GBW, 2.5 V/us Typical SR, 4 to 44 V, 8-Pin DIP (N8-8), Commerical; Linear Technology Part Number: LT1007; Manufacturer: Linear Technology; PartNumber: LT1007CN8; Channels (#): 1; GBW (MHz) Typical: 8; Is (mA) Typical: 2.6; SR (V/us) Typical: 2.5; Vos (mV) Typical: 0.01; Vs Max (V): 44; Vs Min (V): 4; DatasheetVersion: Rev. A; PackageVersion: Rev I; PackageReference: LT-N8-8; PackageDescription: 8-Lead PDIP, Body 10.16 x 6.48 mm, Pitch 2.54 mm; Supplier 1: Digi-Key; Supplier Part Number 1: LT1007CN8-ND; Type: VFB; Mounting Technology: Surface Mount; ComponentLink1Description: Manufacturer URL; ComponentLink1URL: http://www.linear.com/; ComponentLink2Description: Datasheet; ComponentLink2URL: http://cds.linear.com/docs/en/datasheet/1007dicedwffa.pdf; ComponentLink3Description: Package Specification; ComponentLink3URL: http://cds.linear.com/docs/en/packaging/05081510_I_N8.pdf
footprint LT-N8-8 (DIP, 8-Leads, Body 10.16x6.48mm, Pitch 2.54mm)
pins: 1 VOS TRIM (in), 2 -IN (in), 3 +IN (in), 4 V- (power), 5 NC, 6 OUT (out), 7 V+ (power), 8 VOS TRIM (in)

## LT1007CN8#PBF
designator U?
Single Channel, Low Noise, High Speed Precision Operational Amplifier, 8 MHz Typical GBW, 2.5 V/us Typical SR, 4 to 44 V, 8-Pin DIP (N8-8), Commerical, Pb-Free; Linear Technology Part Number: LT1007; Manufacturer: Linear Technology; PartNumber: LT1007CN8#PBF; Channels (#): 1; GBW (MHz) Typical: 8; Is (mA) Typical: 2.6; SR (V/us) Typical: 2.5; Vos (mV) Typical: 0.01; Vs Max (V): 44; Vs Min (V): 4; DatasheetVersion: Rev. A; PackageVersion: Rev I; PackageReference: LT-N8-8; PackageDescription: 8-Lead PDIP, Body 10.16 x 6.48 mm, Pitch 2.54 mm; Supplier 1: Digi-Key; Supplier Part Number 1: LT1007CN8#PBF-ND; Supplier 2: Farnell; Supplier Part Number 2: 9559248; Supplier 3: Newark; Supplier Part Number 3: 57M0730; RoHS: Pb-Free; Type: VFB; Mounting Technology: Through Hole; ComponentLink1Description: Manufacturer URL; ComponentLink1URL: http://www.linear.com/; ComponentLink2Description: Datasheet; ComponentLink2URL: http://cds.linear.com/docs/en/datasheet/1007dicedwffa.pdf; ComponentLink3Description: Package Specification; ComponentLink3URL: http://cds.linear.com/docs/en/packaging/05081510_I_N8.pdf
footprint LT-N8-8 (DIP, 8-Leads, Body 10.16x6.48mm, Pitch 2.54mm)
pins: 1 VOS TRIM (in), 2 -IN (in), 3 +IN (in), 4 V- (power), 5 NC, 6 OUT (out), 7 V+ (power), 8 VOS TRIM (in)

## LT1007CS8
designator U?
Single Channel, Low Noise, High Speed Precision Operational Amplifier, 8 MHz Typical GBW, 2.5 V/us Typical SR, 4 to 44 V, 8-Pin SOIC (S8-8), Commerical; Linear Technology Part Number: LT1007; Manufacturer: Linear Technology; PartNumber: LT1007CS8; Channels (#): 1; GBW (MHz) Typical: 8; Is (mA) Typical: 2.6; SR (V/us) Typical: 2.5; Vos (mV) Typical: 0.01; Vs Max (V): 44; Vs Min (V): 4; DatasheetVersion: Rev. A; PackageVersion: Rev G; PackageReference: LT-S8-8; PackageDescription: 8-Pin Plastic Small Outline, Body 4.9 x 3.9 mm, Pitch 1.27 mm; Supplier 1: Digi-Key; Supplier Part Number 1: LT1007CS8-ND; Type: VFB; Mounting Technology: Surface Mount; ComponentLink1Description: Manufacturer URL; ComponentLink1URL: http://www.linear.com/; ComponentLink2Description: Datasheet; ComponentLink2URL: http://cds.linear.com/docs/en/datasheet/1007dicedwffa.pdf; ComponentLink3Description: Package Specification; ComponentLink3URL: http://cds.linear.com/docs/en/packaging/05081610_G_SO8.pdf
footprint LT-S8-8_N (SOIC, 8-Leads, Body 4.9x3.9mm, Pitch 1.27mm, IPC Medium Density)
footprint LT-S8-8_L (SOIC, 8-Leads, Body 4.9x3.9mm, Pitch 1.27mm, IPC High Density)
footprint LT-S8-8_M (SOIC, 8-Leads, Body 4.9x3.9mm, Pitch 1.27mm, IPC Low Density)
pins: 1 VOS TRIM (in), 2 -IN (in), 3 +IN (in), 4 V- (power), 5 NC, 6 OUT (out), 7 V+ (power), 8 VOS TRIM (in)

## LT1007CS8#PBF
designator U?
Single Channel, Low Noise, High Speed Precision Operational Amplifier, 8 MHz Typical GBW, 2.5 V/us Typical SR, 4 to 44 V, 8-Pin SOIC (S8-8), Commerical, Pb-Free; Linear Technology Part Number: LT1007; Manufacturer: Linear Technology; PartNumber: LT1007CS8#PBF; Channels (#): 1; GBW (MHz) Typical: 8; Is (mA) Typical: 2.6; SR (V/us) Typical: 2.5; Vos (mV) Typical: 0.01; Vs Max (V): 44; Vs Min (V): 4; DatasheetVersion: Rev. A; PackageVersion: Rev G; PackageReference: LT-S8-8; PackageDescription: 8-Pin Plastic Small Outline, Body 4.9 x 3.9 mm, Pitch 1.27 mm; Supplier 1: Digi-Key; Supplier Part Number 1: LT1007CS8#PBF-ND; Supplier 2: Farnell; Supplier Part Number 2: 1136622; Supplier 3: Newark; Supplier Part Number 3: 57M0732; RoHS: Pb-Free; Type: VFB; Mounting Technology: Surface Mount; ComponentLink1Description: Manufacturer URL; ComponentLink1URL: http://www.linear.com/; ComponentLink2Description: Datasheet; ComponentLink2URL: http://cds.linear.com/docs/en/datasheet/1007dicedwffa.pdf; ComponentLink3Description: Package Specification; ComponentLink3URL: http://cds.linear.com/docs/en/packaging/05081610_G_SO8.pdf
footprint LT-S8-8_N (SOIC, 8-Leads, Body 4.9x3.9mm, Pitch 1.27mm, IPC Medium Density)
footprint LT-S8-8_L (SOIC, 8-Leads, Body 4.9x3.9mm, Pitch 1.27mm, IPC High Density)
footprint LT-S8-8_M (SOIC, 8-Leads, Body 4.9x3.9mm, Pitch 1.27mm, IPC Low Density)
pins: 1 VOS TRIM (in), 2 -IN (in), 3 +IN (in), 4 V- (power), 5 NC, 6 OUT (out), 7 V+ (power), 8 VOS TRIM (in)

## LT1007CS8#TR
designator U?
Single Channel, Low Noise, High Speed Precision Operational Amplifier, 8 MHz Typical GBW, 2.5 V/us Typical SR, 4 to 44 V, 8-Pin SOIC (S8-8), Commerical, Reel; Linear Technology Part Number: LT1007; Manufacturer: Linear Technology; PartNumber: LT1007CS8#TR; Channels (#): 1; GBW (MHz) Typical: 8; Is (mA) Typical: 2.6; SR (V/us) Typical: 2.5; Vos (mV) Typical: 0.01; Vs Max (V): 44; Vs Min (V): 4; DatasheetVersion: Rev. A; PackageVersion: Rev G; PackageReference: LT-S8-8; PackageDescription: 8-Pin Plastic Small Outline, Body 4.9 x 3.9 mm, Pitch 1.27 mm; Supplier 1: Digi-Key; Supplier Part Number 1: LT1007CS8#TR-ND; Packing: Reel; Type: VFB; Mounting Technology: Surface Mount; ComponentLink1Description: Manufacturer URL; ComponentLink1URL: http://www.linear.com/; ComponentLink2Description: Datasheet; ComponentLink2URL: http://cds.linear.com/docs/en/datasheet/1007dicedwffa.pdf; ComponentLink3Description: Package Specification; ComponentLink3URL: http://cds.linear.com/docs/en/packaging/05081610_G_SO8.pdf
footprint LT-S8-8_N (SOIC, 8-Leads, Body 4.9x3.9mm, Pitch 1.27mm, IPC Medium Density)
footprint LT-S8-8_L (SOIC, 8-Leads, Body 4.9x3.9mm, Pitch 1.27mm, IPC High Density)
footprint LT-S8-8_M (SOIC, 8-Leads, Body 4.9x3.9mm, Pitch 1.27mm, IPC Low Density)
pins: 1 VOS TRIM (in), 2 -IN (in), 3 +IN (in), 4 V- (power), 5 NC, 6 OUT (out), 7 V+ (power), 8 VOS TRIM (in)

## LT1007CS8#TRPBF
designator U?
Single Channel, Low Noise, High Speed Precision Operational Amplifier, 8 MHz Typical GBW, 2.5 V/us Typical SR, 4 to 44 V, 8-Pin SOIC (S8-8), Commerical, Pb-Free, Reel; Linear Technology Part Number: LT1007; Manufacturer: Linear Technology; PartNumber: LT1007CS8#TRPBF; Channels (#): 1; GBW (MHz) Typical: 8; Is (mA) Typical: 2.6; SR (V/us) Typical: 2.5; Vos (mV) Typical: 0.01; Vs Max (V): 44; Vs Min (V): 4; DatasheetVersion: Rev. A; PackageVersion: Rev G; PackageReference: LT-S8-8; PackageDescription: 8-Pin Plastic Small Outline, Body 4.9 x 3.9 mm, Pitch 1.27 mm; Supplier 1: Digi-Key; Supplier Part Number 1: LT1007CS8#TRPBF-ND; Packing: Reel; RoHS: Pb-Free; Type: VFB; Mounting Technology: Surface Mount; ComponentLink1Description: Manufacturer URL; ComponentLink1URL: http://www.linear.com/; ComponentLink2Description: Datasheet; ComponentLink2URL: http://cds.linear.com/docs/en/datasheet/1007dicedwffa.pdf; ComponentLink3Description: Package Specification; ComponentLink3URL: http://cds.linear.com/docs/en/packaging/05081610_G_SO8.pdf
footprint LT-S8-8_N (SOIC, 8-Leads, Body 4.9x3.9mm, Pitch 1.27mm, IPC Medium Density)
footprint LT-S8-8_L (SOIC, 8-Leads, Body 4.9x3.9mm, Pitch 1.27mm, IPC High Density)
footprint LT-S8-8_M (SOIC, 8-Leads, Body 4.9x3.9mm, Pitch 1.27mm, IPC Low Density)
pins: 1 VOS TRIM (in), 2 -IN (in), 3 +IN (in), 4 V- (power), 5 NC, 6 OUT (out), 7 V+ (power), 8 VOS TRIM (in)

## LT1007IN8
designator U?
Single Channel, Low Noise, High Speed Precision Operational Amplifier, 8 MHz Typical GBW, 2.5 V/us Typical SR, 4 to 44 V, 8-Pin DIP (N8-8), Industrial; Linear Technology Part Number: LT1007; Manufacturer: Linear Technology; PartNumber: LT1007IN8; Channels (#): 1; GBW (MHz) Typical: 8; Is (mA) Typical: 2.6; SR (V/us) Typical: 2.5; Vos (mV) Typical: 0.01; Vs Max (V): 44; Vs Min (V): 4; DatasheetVersion: Rev. A; PackageVersion: Rev I; PackageReference: LT-N8-8; PackageDescription: 8-Lead PDIP, Body 10.16 x 6.48 mm, Pitch 2.54 mm; Supplier 1: Digi-Key; Supplier Part Number 1: LT1007IN8-ND; Type: VFB; Mounting Technology: Surface Mount; ComponentLink1Description: Manufacturer URL; ComponentLink1URL: http://www.linear.com/; ComponentLink2Description: Datasheet; ComponentLink2URL: http://cds.linear.com/docs/en/datasheet/1007dicedwffa.pdf; ComponentLink3Description: Package Specification; ComponentLink3URL: http://cds.linear.com/docs/en/packaging/05081510_I_N8.pdf
footprint LT-N8-8 (DIP, 8-Leads, Body 10.16x6.48mm, Pitch 2.54mm)
pins: 1 VOS TRIM (in), 2 -IN (in), 3 +IN (in), 4 V- (power), 5 NC, 6 OUT (out), 7 V+ (power), 8 VOS TRIM (in)

## LT1007IN8#PBF
designator U?
Single Channel, Low Noise, High Speed Precision Operational Amplifier, 8 MHz Typical GBW, 2.5 V/us Typical SR, 4 to 44 V, 8-Pin DIP (N8-8), Industrial, Pb-Free; Linear Technology Part Number: LT1007; Manufacturer: Linear Technology; PartNumber: LT1007IN8#PBF; Channels (#): 1; GBW (MHz) Typical: 8; Is (mA) Typical: 2.6; SR (V/us) Typical: 2.5; Vos (mV) Typical: 0.01; Vs Max (V): 44; Vs Min (V): 4; DatasheetVersion: Rev. A; PackageVersion: Rev I; PackageReference: LT-N8-8; PackageDescription: 8-Lead PDIP, Body 10.16 x 6.48 mm, Pitch 2.54 mm; Supplier 1: Digi-Key; Supplier Part Number 1: LT1007IN8#PBF-ND; RoHS: Pb-Free; Type: VFB; Mounting Technology: Surface Mount; ComponentLink1Description: Manufacturer URL; ComponentLink1URL: http://www.linear.com/; ComponentLink2Description: Datasheet; ComponentLink2URL: http://cds.linear.com/docs/en/datasheet/1007dicedwffa.pdf; ComponentLink3Description: Package Specification; ComponentLink3URL: http://cds.linear.com/docs/en/packaging/05081510_I_N8.pdf
footprint LT-N8-8 (DIP, 8-Leads, Body 10.16x6.48mm, Pitch 2.54mm)
pins: 1 VOS TRIM (in), 2 -IN (in), 3 +IN (in), 4 V- (power), 5 NC, 6 OUT (out), 7 V+ (power), 8 VOS TRIM (in)

## LT1007IS8
designator U?
Single Channel, Low Noise, High Speed Precision Operational Amplifier, 8 MHz Typical GBW, 2.5 V/us Typical SR, 4 to 44 V, 8-Pin SOIC (S8-8), Industrial; Linear Technology Part Number: LT1007; Manufacturer: Linear Technology; PartNumber: LT1007IS8; Channels (#): 1; GBW (MHz) Typical: 8; Is (mA) Typical: 2.6; SR (V/us) Typical: 2.5; Vos (mV) Typical: 0.01; Vs Max (V): 44; Vs Min (V): 4; DatasheetVersion: Rev. A; PackageVersion: Rev G; PackageReference: LT-S8-8; PackageDescription: 8-Pin Plastic Small Outline, Body 4.9 x 3.9 mm, Pitch 1.27 mm; Supplier 1: Digi-Key; Supplier Part Number 1: LT1007IS8-ND; Supplier 2: Newark; Supplier Part Number 2: 57M0737; Type: VFB; Mounting Technology: Surface Mount; ComponentLink1Description: Manufacturer URL; ComponentLink1URL: http://www.linear.com/; ComponentLink2Description: Datasheet; ComponentLink2URL: http://cds.linear.com/docs/en/datasheet/1007dicedwffa.pdf; ComponentLink3Description: Package Specification; ComponentLink3URL: http://cds.linear.com/docs/en/packaging/05081610_G_SO8.pdf
footprint LT-S8-8_N (SOIC, 8-Leads, Body 4.9x3.9mm, Pitch 1.27mm, IPC Medium Density)
footprint LT-S8-8_L (SOIC, 8-Leads, Body 4.9x3.9mm, Pitch 1.27mm, IPC High Density)
footprint LT-S8-8_M (SOIC, 8-Leads, Body 4.9x3.9mm, Pitch 1.27mm, IPC Low Density)
pins: 1 VOS TRIM (in), 2 -IN (in), 3 +IN (in), 4 V- (power), 5 NC, 6 OUT (out), 7 V+ (power), 8 VOS TRIM (in)

## LT1007IS8#PBF
designator U?
Single Channel, Low Noise, High Speed Precision Operational Amplifier, 8 MHz Typical GBW, 2.5 V/us Typical SR, 4 to 44 V, 8-Pin SOIC (S8-8), Industrial, Pb-Free; Linear Technology Part Number: LT1007; Manufacturer: Linear Technology; PartNumber: LT1007IS8#PBF; Channels (#): 1; GBW (MHz) Typical: 8; Is (mA) Typical: 2.6; SR (V/us) Typical: 2.5; Vos (mV) Typical: 0.01; Vs Max (V): 44; Vs Min (V): 4; DatasheetVersion: Rev. A; PackageVersion: Rev G; PackageReference: LT-S8-8; PackageDescription: 8-Pin Plastic Small Outline, Body 4.9 x 3.9 mm, Pitch 1.27 mm; Supplier 1: Digi-Key; Supplier Part Number 1: LT1007IS8#PBF-ND; Supplier 2: Farnell; Supplier Part Number 2: 1663324; Supplier 3: Newark; Supplier Part Number 3: 57M0738; RoHS: Pb-Free; Type: VFB; Mounting Technology: Surface Mount; ComponentLink1Description: Manufacturer URL; ComponentLink1URL: http://www.linear.com/; ComponentLink2Description: Datasheet; ComponentLink2URL: http://cds.linear.com/docs/en/datasheet/1007dicedwffa.pdf; ComponentLink3Description: Package Specification; ComponentLink3URL: http://cds.linear.com/docs/en/packaging/05081610_G_SO8.pdf
footprint LT-S8-8_N (SOIC, 8-Leads, Body 4.9x3.9mm, Pitch 1.27mm, IPC Medium Density)
footprint LT-S8-8_L (SOIC, 8-Leads, Body 4.9x3.9mm, Pitch 1.27mm, IPC High Density)
footprint LT-S8-8_M (SOIC, 8-Leads, Body 4.9x3.9mm, Pitch 1.27mm, IPC Low Density)
pins: 1 VOS TRIM (in), 2 -IN (in), 3 +IN (in), 4 V- (power), 5 NC, 6 OUT (out), 7 V+ (power), 8 VOS TRIM (in)

## LT1007IS8#TR
designator U?
Single Channel, Low Noise, High Speed Precision Operational Amplifier, 8 MHz Typical GBW, 2.5 V/us Typical SR, 4 to 44 V, 8-Pin SOIC (S8-8), Industrial, Reel; Linear Technology Part Number: LT1007; Manufacturer: Linear Technology; PartNumber: LT1007IS8#TR; Channels (#): 1; GBW (MHz) Typical: 8; Is (mA) Typical: 2.6; SR (V/us) Typical: 2.5; Vos (mV) Typical: 0.01; Vs Max (V): 44; Vs Min (V): 4; DatasheetVersion: Rev. A; PackageVersion: Rev G; PackageReference: LT-S8-8; PackageDescription: 8-Pin Plastic Small Outline, Body 4.9 x 3.9 mm, Pitch 1.27 mm; Supplier 1: Digi-Key; Supplier Part Number 1: LT1007IS8#TR-ND; Packing: Reel; Type: VFB; Mounting Technology: Surface Mount; ComponentLink1Description: Manufacturer URL; ComponentLink1URL: http://www.linear.com/; ComponentLink2Description: Datasheet; ComponentLink2URL: http://cds.linear.com/docs/en/datasheet/1007dicedwffa.pdf; ComponentLink3Description: Package Specification; ComponentLink3URL: http://cds.linear.com/docs/en/packaging/05081610_G_SO8.pdf
footprint LT-S8-8_N (SOIC, 8-Leads, Body 4.9x3.9mm, Pitch 1.27mm, IPC Medium Density)
footprint LT-S8-8_L (SOIC, 8-Leads, Body 4.9x3.9mm, Pitch 1.27mm, IPC High Density)
footprint LT-S8-8_M (SOIC, 8-Leads, Body 4.9x3.9mm, Pitch 1.27mm, IPC Low Density)
pins: 1 VOS TRIM (in), 2 -IN (in), 3 +IN (in), 4 V- (power), 5 NC, 6 OUT (out), 7 V+ (power), 8 VOS TRIM (in)

## LT1007IS8#TRPBF
designator U?
Single Channel, Low Noise, High Speed Precision Operational Amplifier, 8 MHz Typical GBW, 2.5 V/us Typical SR, 4 to 44 V, 8-Pin SOIC (S8-8), Industrial, Pb-Free, Reel; Linear Technology Part Number: LT1007; Manufacturer: Linear Technology; PartNumber: LT1007IS8#TRPBF; Channels (#): 1; GBW (MHz) Typical: 8; Is (mA) Typical: 2.6; SR (V/us) Typical: 2.5; Vos (mV) Typical: 0.01; Vs Max (V): 44; Vs Min (V): 4; DatasheetVersion: Rev. A; PackageVersion: Rev G; PackageReference: LT-S8-8; PackageDescription: 8-Pin Plastic Small Outline, Body 4.9 x 3.9 mm, Pitch 1.27 mm; Supplier 1: Digi-Key; Supplier Part Number 1: LT1007IS8#TRPBF-ND; Supplier 2: Newark; Supplier Part Number 2: 57M0740; Packing: Reel; RoHS: Pb-Free; Type: VFB; Mounting Technology: Surface Mount; ComponentLink1Description: Manufacturer URL; ComponentLink1URL: http://www.linear.com/; ComponentLink2Description: Datasheet; ComponentLink2URL: http://cds.linear.com/docs/en/datasheet/1007dicedwffa.pdf; ComponentLink3Description: Package Specification; ComponentLink3URL: http://cds.linear.com/docs/en/packaging/05081610_G_SO8.pdf
footprint LT-S8-8_N (SOIC, 8-Leads, Body 4.9x3.9mm, Pitch 1.27mm, IPC Medium Density)
footprint LT-S8-8_L (SOIC, 8-Leads, Body 4.9x3.9mm, Pitch 1.27mm, IPC High Density)
footprint LT-S8-8_M (SOIC, 8-Leads, Body 4.9x3.9mm, Pitch 1.27mm, IPC Low Density)
pins: 1 VOS TRIM (in), 2 -IN (in), 3 +IN (in), 4 V- (power), 5 NC, 6 OUT (out), 7 V+ (power), 8 VOS TRIM (in)

## LT1008CN8
designator U?
Single Channel, Low Bias Current, Externally Compensated Operational Amplifier, 1 MHz Typical GBW, 0.2 V/us Typical SR, 4 to 40 V, 8-Pin DIP (N8-8), Commerical; Linear Technology Part Number: LT1008; Manufacturer: Linear Technology; PartNumber: LT1008CN8; Channels (#): 1; Is (mA) Typical: 0.38; SR (V/us) Typical: 0.2; Vos (mV) Typical: 0.03; Vs Max (V): 40; Vs Min (V): 4; DatasheetVersion: Rev. B; PackageVersion: Rev I; PackageReference: LT-N8-8; PackageDescription: 8-Lead PDIP, Body 10.16 x 6.48 mm, Pitch 2.54 mm; Supplier 1: Digi-Key; Supplier Part Number 1: LT1008CN8-ND; Supplier 2: Newark; Supplier Part Number 2: 57M0741; GBW (MHz) Typical: 1; Type: VFB; Mounting Technology: Through Hole; ComponentLink1Description: Manufacturer URL; ComponentLink1URL: http://www.linear.com/; ComponentLink2Description: Datasheet; ComponentLink2URL: http://cds.linear.com/docs/en/datasheet/1008fb.pdf; ComponentLink3Description: Package Specification; ComponentLink3URL: http://cds.linear.com/docs/en/packaging/05081510_I_N8.pdf
footprint LT-N8-8 (DIP, 8-Leads, Body 10.16x6.48mm, Pitch 2.54mm)
pins: 1 COMP1 (in), 2 -IN (in), 3 +IN (in), 4 V- (power), 5 NC, 6 OUT (out), 7 V+ (power), 8 COMP2 (in)

## LT1008CN8#PBF
designator U?
Single Channel, Low Bias Current, Externally Compensated Operational Amplifier, 1 MHz Typical GBW, 0.2 V/us Typical SR, 4 to 40 V, 8-Pin DIP (N8-8), Commerical, Pb-Free; Linear Technology Part Number: LT1008; Manufacturer: Linear Technology; PartNumber: LT1008CN8#PBF; Channels (#): 1; Is (mA) Typical: 0.38; SR (V/us) Typical: 0.2; Vos (mV) Typical: 0.03; Vs Max (V): 40; Vs Min (V): 4; DatasheetVersion: Rev. B; PackageVersion: Rev I; PackageReference: LT-N8-8; PackageDescription: 8-Lead PDIP, Body 10.16 x 6.48 mm, Pitch 2.54 mm; Supplier 1: Digi-Key; Supplier Part Number 1: LT1008CN8#PBF-ND; Supplier 2: Farnell; Supplier Part Number 2: 2211377; Supplier 3: Newark; Supplier Part Number 3: 57M0742; GBW (MHz) Typical: 1; RoHS: Pb-Free; Type: VFB; Mounting Technology: Surface Mount; ComponentLink1Description: Manufacturer URL; ComponentLink1URL: http://www.linear.com/; ComponentLink2Description: Datasheet; ComponentLink2URL: http://cds.linear.com/docs/en/datasheet/1008fb.pdf; ComponentLink3Description: Package Specification; ComponentLink3URL: http://cds.linear.com/docs/en/packaging/05081510_I_N8.pdf
footprint LT-N8-8 (DIP, 8-Leads, Body 10.16x6.48mm, Pitch 2.54mm)
pins: 1 COMP1 (in), 2 -IN (in), 3 +IN (in), 4 V- (power), 5 NC, 6 OUT (out), 7 V+ (power), 8 COMP2 (in)

## LT1008IN8
designator U?
Single Channel, Low Bias Current, Externally Compensated Operational Amplifier, 1 MHz Typical GBW, 0.2 V/us Typical SR, 4 to 40 V, 8-Pin DIP (N8-8), Industrial; Linear Technology Part Number: LT1008; Manufacturer: Linear Technology; PartNumber: LT1008IN8; Channels (#): 1; Is (mA) Typical: 0.38; SR (V/us) Typical: 0.2; Vos (mV) Typical: 0.03; Vs Max (V): 40; Vs Min (V): 4; DatasheetVersion: Rev. B; PackageVersion: Rev I; PackageReference: LT-N8-8; PackageDescription: 8-Lead PDIP, Body 10.16 x 6.48 mm, Pitch 2.54 mm; Supplier 1: Digi-Key; Supplier Part Number 1: LT1008IN8-ND; GBW (MHz) Typical: 1; Type: VFB; Mounting Technology: Through Hole; ComponentLink1Description: Manufacturer URL; ComponentLink1URL: http://www.linear.com/; ComponentLink2Description: Datasheet; ComponentLink2URL: http://cds.linear.com/docs/en/datasheet/1008fb.pdf; ComponentLink3Description: Package Specification; ComponentLink3URL: http://cds.linear.com/docs/en/packaging/05081510_I_N8.pdf
footprint LT-N8-8 (DIP, 8-Leads, Body 10.16x6.48mm, Pitch 2.54mm)
pins: 1 COMP1 (in), 2 -IN (in), 3 +IN (in), 4 V- (power), 5 NC, 6 OUT (out), 7 V+ (power), 8 COMP2 (in)

## LT1008IN8#PBF
designator U?
Single Channel, Low Bias Current, Externally Compensated Operational Amplifier, 1 MHz Typical GBW, 0.2 V/us Typical SR, 4 to 40 V, 8-Pin DIP (N8-8), Industrial, Pb-Free; Linear Technology Part Number: LT1008; Manufacturer: Linear Technology; PartNumber: LT1008IN8#PBF; Channels (#): 1; Is (mA) Typical: 0.38; SR (V/us) Typical: 0.2; Vos (mV) Typical: 0.03; Vs Max (V): 40; Vs Min (V): 4; DatasheetVersion: Rev. B; PackageVersion: Rev I; PackageReference: LT-N8-8; PackageDescription: 8-Lead PDIP, Body 10.16 x 6.48 mm, Pitch 2.54 mm; Supplier 1: Digi-Key; Supplier Part Number 1: LT1008IN8#PBF-ND; GBW (MHz) Typical: 1; RoHS: Pb-Free; Type: VFB; Mounting Technology: Through Hole; ComponentLink1Description: Manufacturer URL; ComponentLink1URL: http://www.linear.com/; ComponentLink2Description: Datasheet; ComponentLink2URL: http://cds.linear.com/docs/en/datasheet/1008fb.pdf; ComponentLink3Description: Package Specification; ComponentLink3URL: http://cds.linear.com/docs/en/packaging/05081510_I_N8.pdf
footprint LT-N8-8 (DIP, 8-Leads, Body 10.16x6.48mm, Pitch 2.54mm)
pins: 1 COMP1 (in), 2 -IN (in), 3 +IN (in), 4 V- (power), 5 NC, 6 OUT (out), 7 V+ (power), 8 COMP2 (in)

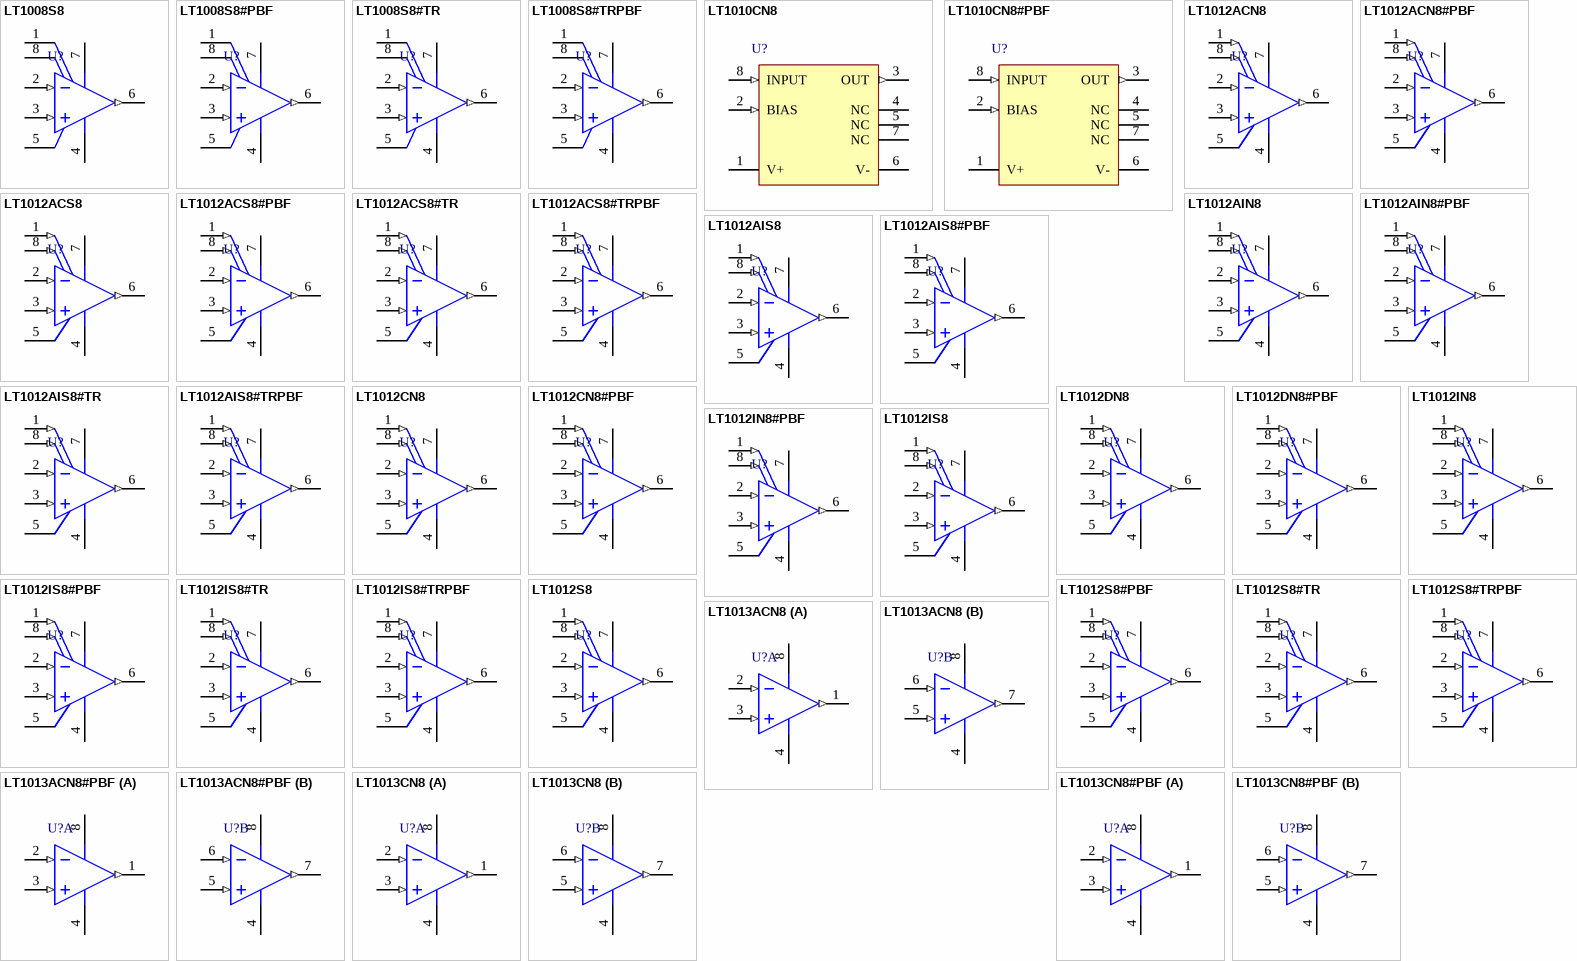
[diagram p1: symbols LT1008S8 to LT1013CN8#PBF]